# EAGLE library part LM5166XDRCR (library moteus_n1)
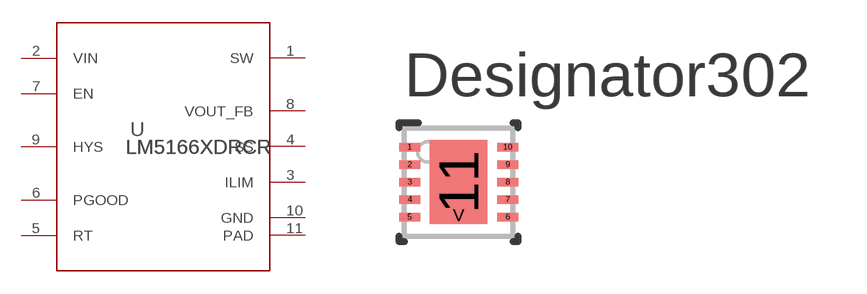
[diagram p5: symbol with the pads of DRC0010J; footprint DRC0010J]

Designator prefix U

## LM5166XDRCR (COPYRIGHT: Copyright (C) 2022 Ultra Librarian. All rights reserved.; DIGI-KEY_PART_NUMBER_1: 296-47662-1-ND; DIGI-KEY_PART_NUMBER_2: 296-47662-2-ND; DIGI-KEY_PART_NUMBER_3: 296-47662-6-ND; MANUFACTURER_PART_NUMBER: LM5166XDRCR; MFR_NAME: Texas Instruments; REFDES: RefDes; TYPE: TYPE)  [DRC0010J]
1  SW  pwr
2  VIN  pwr
3  ILIM  in
4  SS  in
5  RT  in
6  PGOOD  oc
7  EN  in
8  VOUT_FB  pas
9  HYS  pas
10  GND  pwr
11  PAD  pwr

## Footprint DRC0010J (pad centres in mm)
smd 0.6 x 0.24: 1 -1.4,1; 2 -1.4,0.5; 3 -1.4,0; 4 -1.4,-0.5; 5 -1.4,-1; 6 1.4,-1; 7 1.4,-0.5; 8 1.4,0; 9 1.4,0.5; 10 1.4,1
smd 1.65 x 2.4: 11 0,0
smd 0.5 x 0.5: V 0,-0.95